# EAGLE library part SCREEN (library gameconsole)
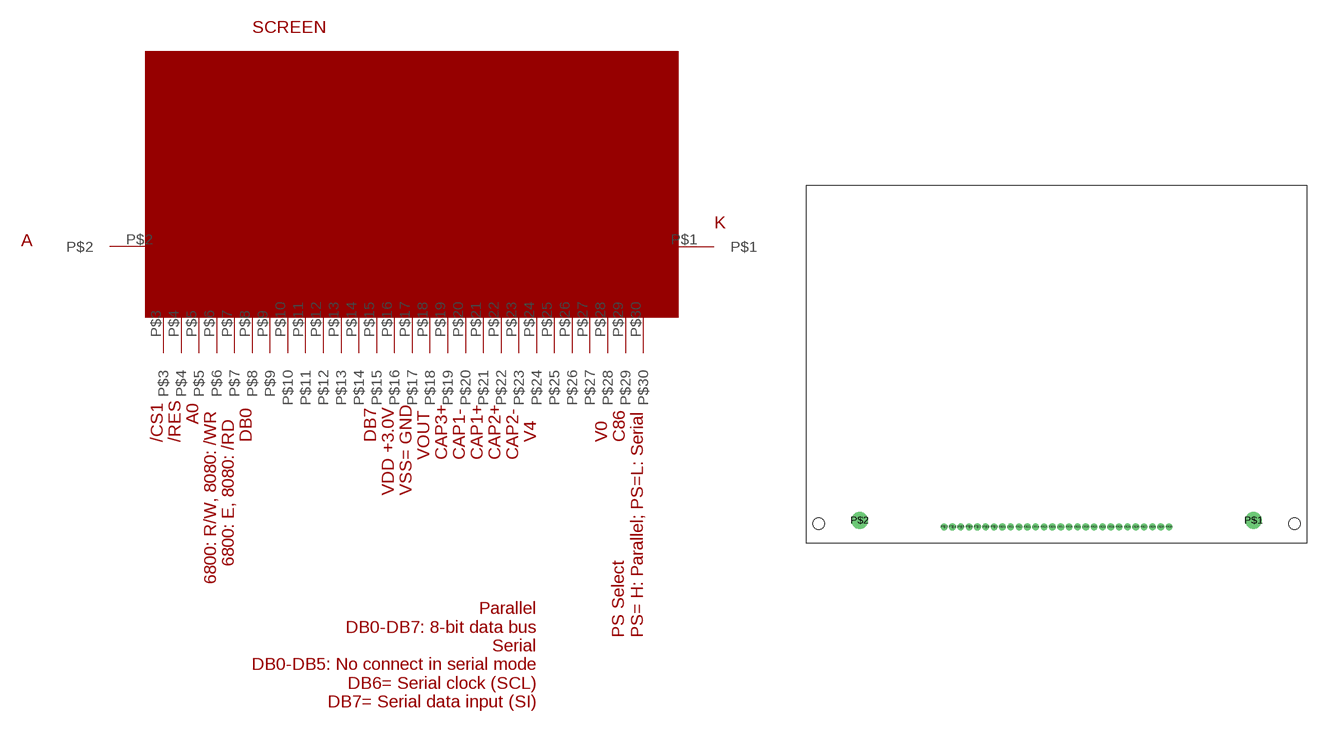
[diagram p0: symbol with the pads of DISPLAY_128_64; footprint DISPLAY_128_64]

Designator prefix -

## SCREEN  [DISPLAY_128_64]
P$1  P$1
P$2  P$2
P$3  P$3
P$4  P$4
P$5  P$5
P$6  P$6
P$7  P$7
P$8  P$8
P$9  P$9
P$10  P$10
P$11  P$11
P$12  P$12
P$13  P$13
P$14  P$14
P$15  P$15
P$16  P$16
P$17  P$17
P$18  P$18
P$19  P$19
P$20  P$20
P$21  P$21
P$22  P$22
P$23  P$23
P$24  P$24
P$25  P$25
P$26  P$26
P$27  P$27
P$28  P$28
P$29  P$29
P$30  P$30

## Footprint DISPLAY_128_64 (pad centres in mm)
drill 1.7: P$1 30,1; P$2 -30,1
drill 0.508: P$3 -17.145,0; P$4 -15.875,0; P$5 -14.605,0; P$6 -13.335,0; P$7 -12.065,0; P$8 -10.795,0; P$9 -9.525,0; P$10 -8.255,0; P$11 -6.985,0; P$12 -5.715,0; P$13 -4.445,0; P$14 -3.175,0; P$15 -1.905,0; P$16 -0.635,0; P$17 0.635,0; P$18 1.905,0; P$19 3.175,0; P$20 4.445,0; P$21 5.715,0; P$22 6.985,0; P$23 8.255,0; P$24 9.525,0; P$25 10.795,0; P$26 12.065,0; P$27 13.335,0; P$28 14.605,0
drill 0.508 pad 0.991: P$29 15.875,0; P$30 17.145,0
hole 1.7 at -36.25,0.5
hole 1.7 at 36.25,0.5